# EAGLE library part PICO2W (library WiFiPicoDMX_RevA_used)
Raspberry Pi Pico 2 W development board using project-library through-hole header land pattern
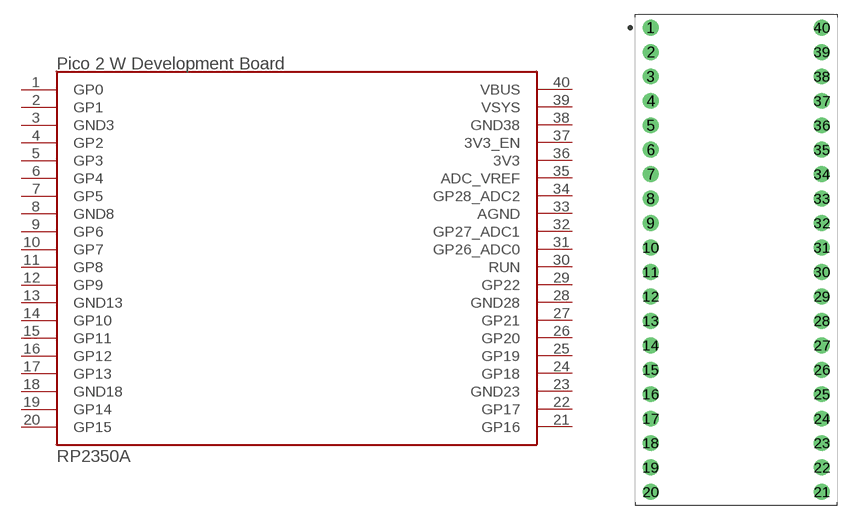
[diagram p0: symbol with the pads of PICO_2_W_DEVELOPMENT_BOARD; footprint PICO_2_W_DEVELOPMENT_BOARD]

Designator prefix U

## PICO2W  [PICO_2_W_DEVELOPMENT_BOARD]
1  GP0
2  GP1
3  GND3  sup
4  GP2
5  GP3
6  GP4
7  GP5
8  GND8  sup
9  GP6
10  GP7
11  GP8
12  GP9
13  GND13  sup
14  GP10
15  GP11
16  GP12
17  GP13
18  GND18  sup
19  GP14
20  GP15
21  GP16
22  GP17
23  GND23  sup
24  GP18
25  GP19
26  GP20
27  GP21
28  GND28  sup
29  GP22
30  RUN
31  GP26_ADC0
32  GP27_ADC1
33  AGND  sup
34  GP28_ADC2
35  ADC_VREF  sup
36  3V3  sup
37  3V3_EN
38  GND38  sup
39  VSYS  pwr
40  VBUS  pwr

## Footprint PICO_2_W_DEVELOPMENT_BOARD (pad centres in mm)
40-DIP Socket, 2.54 mm (0.10 in) pitch, 17.78 mm (0.70 in) horizontal pin pitch, 51.00 X 21.00 X 5.08 mm body 40-pin DIP Socket package with 2.54 mm (0.10 in) pitch, 17.78 mm (0.70 in) horizontal pin pitch with body size 51.00 X 21.00 X 5.08 mm
drill 1.048 pad 1.649: 1 -8.89,24.13; 2 -8.89,21.59; 3 -8.89,19.05; 4 -8.89,16.51; 5 -8.89,13.97; 6 -8.89,11.43; 7 -8.89,8.89; 8 -8.89,6.35; 9 -8.89,3.81; 10 -8.89,1.27; 11 -8.89,-1.27; 12 -8.89,-3.81; 13 -8.89,-6.35; 14 -8.89,-8.89; 15 -8.89,-11.43; 16 -8.89,-13.97; 17 -8.89,-16.51; 18 -8.89,-19.05; 19 -8.89,-21.59; 20 -8.89,-24.13; 21 8.89,-24.13; 22 8.89,-21.59; 23 8.89,-19.05; 24 8.89,-16.51; 25 8.89,-13.97; 26 8.89,-11.43; 27 8.89,-8.89; 28 8.89,-6.35; 29 8.89,-3.81; 30 8.89,-1.27; 31 8.89,1.27; 32 8.89,3.81; 33 8.89,6.35; 34 8.89,8.89; 35 8.89,11.43; 36 8.89,13.97; 37 8.89,16.51; 38 8.89,19.05; 39 8.89,21.59; 40 8.89,24.13